# Altium footprint library WirelessModule.PcbLib: 7 footprints
Each footprint in its own frame and in the unit in brackets; x right, y up, seen from the top. Pads: shape width x height; smd on the part's side, far side on the other; paste and mask are expansions set on the pad; w line width, h text height; cw(c..) or ccw(c..) is an arc to the next point about the centre after c.
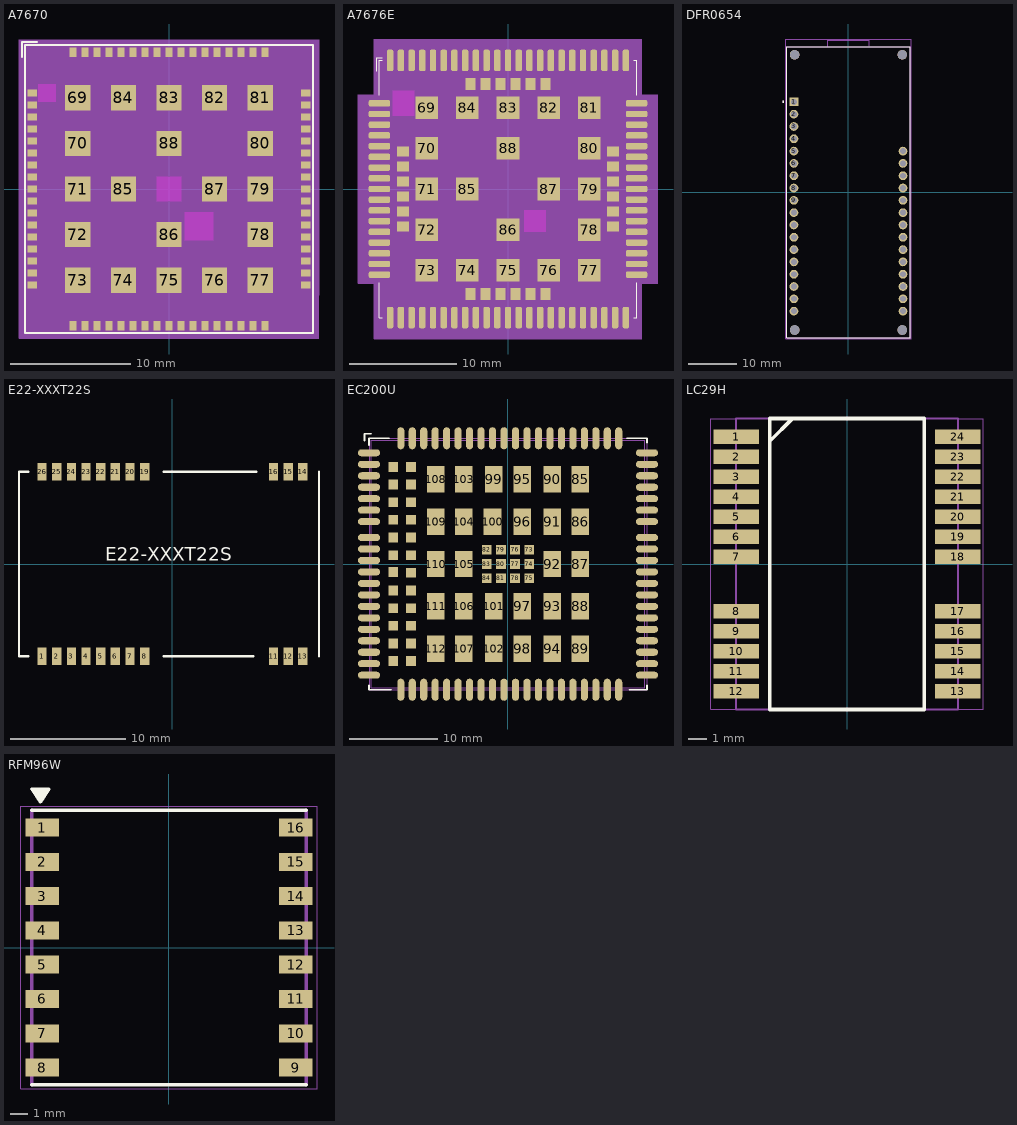
[diagram p0: the footprints below, top view; thin cyan lines are the x and y axes]

## A7670 [mm]
pads (88):
  rect 0.8x0.6 smd mask+0.05: 1(-11.4,8) 2(-11.4,7) 3(-11.4,6) 4(-11.4,5) 5(-11.4,4) 6(-11.4,3) 7(-11.4,2) 8(-11.4,1) 9(-11.4,0) 10(-11.4,-1) 11(-11.4,-2) 12(-11.4,-3) 13(-11.4,-4) 14(-11.4,-5) 15(-11.4,-6) 16(-11.4,-7) 17(-11.4,-8) 35(11.4,-8) 36(11.4,-7) 37(11.4,-6) 38(11.4,-5) 39(11.4,-4) 40(11.4,-3) 41(11.4,-2) 42(11.4,-1) 43(11.4,0) 44(11.4,1) 45(11.4,2) 46(11.4,3) 47(11.4,4) 48(11.4,5) 49(11.4,6) 50(11.4,7) 51(11.4,8)
  rect 0.6x0.8 smd mask+0.05: 18(-8,-11.4) 19(-7,-11.4) 20(-6,-11.4) 21(-5,-11.4) 22(-4,-11.4) 23(-3,-11.4) 24(-2,-11.4) 25(-1,-11.4) 26(0,-11.4) 27(1,-11.4) 28(2,-11.4) 29(3,-11.4) 30(4,-11.4) 31(5,-11.4) 32(6,-11.4) 33(7,-11.4) 34(8,-11.4) 52(8,11.4) 53(7,11.4) 54(6,11.4) 55(5,11.4) 56(4,11.4) 57(3,11.4) 58(2,11.4) 59(1,11.4) 60(0,11.4) 61(-1,11.4) 62(-2,11.4) 63(-3,11.4) 64(-4,11.4) 65(-5,11.4) 66(-6,11.4) 67(-7,11.4) 68(-8,11.4)
  rect 2.1x2.1 smd mask+0.05: 69(-7.6,7.6) 70(-7.6,3.8) 71(-7.6,0) 72(-7.6,-3.8) 73(-7.6,-7.6) 74(-3.8,-7.6) 75(0,-7.6) 76(3.8,-7.6) 77(7.6,-7.6) 78(7.6,-3.8) 79(7.6,0) 80(7.6,3.8) 81(7.6,7.6) 82(3.8,7.6) 83(0,7.6) 84(-3.8,7.6) 85(-3.8,0) 86(0,-3.8) 87(3.8,0) 88(0,3.8)
Top Overlay:
  lines w0.2: -12.25,11 -12.25,12.25 -11,12.25 ; -12,-12 -12,-8.75 -12,12 11.75,12 12,12 12,8.75 12,-8.75 12,-12 11.75,-12 -11.75,-12 -12,-12
Keep-Out Layer:
  rectangle: -1.05,-1.05 1.05,1.05
  rectangle: 1.3,-4.3 3.7,-1.9
  region: -9.4,7.25 -9.4,8.75 -10.9,8.75 -10.9,7.25
Assembly Notes:
  circle w0.1: c2.413,-3.048 r0.648
  lines w0.1: -12,-12 12,-12 12,12 -12,12 -12,-12 ; -10.668,8.001 -9.906,8.509 -9.906,7.493 -10.668,8.001
Mechanical 15:
  rectangle: -12.5,-12.446 12.5,12.446
  lines w0.1: 12.5,-8.8 12.5,-12.446 -12.5,-12.446 -12.5,-8.8 -12.5,8.8 -12.5,12.446 12.5,12.446 12.5,8.8 12.5,-8.8 ; 12.5,-8.8 12.5,-8.8
3D body "A7670E--3DModel-STEP-510211.STEP": height 2.7, standoff 0, extent -12,-12 12,12

## A7676E [mm]
pads (124):
  rrect50% 2x0.6 smd mask+0.05: 1(-12,8) 2(-12,7) 3(-12,6) 4(-12,5) 5(-12,4) 6(-12,3) 7(-12,2) 8(-12,1) 9(-12,0) 10(-12,-1) 11(-12,-2) 12(-12,-3) 13(-12,-4) 14(-12,-5) 15(-12,-6) 16(-12,-7) 17(-12,-8) 35(12,-8) 36(12,-7) 37(12,-6) 38(12,-5) 39(12,-4) 40(12,-3) 41(12,-2) 42(12,-1) 43(12,0) 44(12,1) 45(12,2) 46(12,3) 47(12,4) 48(12,5) 49(12,6) 50(12,7) 51(12,8)
  rrect50% 0.6x2 smd mask+0.05: 18(-8,-12) 19(-7,-12) 20(-6,-12) 21(-5,-12) 22(-4,-12) 23(-3,-12) 24(-2,-12) 25(-1,-12) 26(0,-12) 27(1,-12) 28(2,-12) 29(3,-12) 30(4,-12) 31(5,-12) 32(6,-12) 33(7,-12) 34(8,-12) 52(8,12) 53(7,12) 54(6,12) 55(5,12) 56(4,12) 57(3,12) 58(2,12) 59(1,12) 60(0,12) 61(-1,12) 62(-2,12) 63(-3,12) 64(-4,12) 65(-5,12) 66(-6,12) 67(-7,12) 68(-8,12) 89(-11,-12) 90(-10,-12) 91(-9,-12) 92(9,-12) 93(10,-12) 94(11,-12) 95(11,12) 96(10,12) 97(9,12) 98(-9,12) 99(-10,12) 100(-11,12)
  rect 2.1x2.1 smd mask+0.05: 69(-7.6,7.6) 70(-7.6,3.8) 71(-7.6,0) 72(-7.6,-3.8) 73(-7.6,-7.6) 74(-3.8,-7.6) 75(0,-7.6) 76(3.8,-7.6) 77(7.6,-7.6) 78(7.6,-3.8) 79(7.6,0) 80(7.6,3.8) 81(7.6,7.6) 82(3.8,7.6) 83(0,7.6) 84(-3.8,7.6) 85(-3.8,0) 86(0,-3.8) 87(3.8,0) 88(0,3.8)
  rect 1.1x0.9 smd mask+0.05: 101(-9.8,3.5) 102(-9.8,2.1) 103(-9.8,0.7) 104(-9.8,-0.7) 105(-9.8,-2.1) 106(-9.8,-3.5) 113(9.8,-3.5) 114(9.8,-2.1) 115(9.8,-0.7) 116(9.8,0.7) 117(9.8,2.1) 118(9.8,3.5)
  rect 0.9x1.1 smd mask+0.05: 107(-3.5,-9.8) 108(-2.1,-9.8) 109(-0.7,-9.8) 110(0.7,-9.8) 111(2.1,-9.8) 112(3.5,-9.8) 119(3.5,9.8) 120(2.1,9.8) 121(0.7,9.8) 122(-0.7,9.8) 123(-2.1,9.8) 124(-3.5,9.8)
Top Overlay:
  lines w0.1: -12.25,11 -12.25,12.25 -11.75,12.25 ; -12,-8.75 -12,-12 -11.75,-12 ; -12,8.75 -12,12 -11.75,12 ; 11.75,-12 12,-12 12,-8.75 ; 11.75,12 12,12 12,8.75
Keep-Out Layer:
  region: -8.725,6.8 -8.725,9.2 -10.775,9.2 -10.775,6.8
  rectangle: 1.475,-4.025 3.525,-1.975
Assembly Notes:
  circle w0.1: c2.5,-3 r0.5
  lines w0.1: -12,-12 -12,12 12,12 12,-12 -12,-12 ; -10.25,8 -9.25,7 -9.25,8.75 -10.25,8
Mechanical 15:
  rectangle: -14,-8.8 14,8.8
  rectangle: -12.5,-14 12.5,14
  lines w0.1: -14,-8.8 -12.5,-8.8 -12.5,-14 12.5,-14 12.5,-8.8 14,-8.8 14,8.8 12.5,8.8 12.5,14 -12.5,14 -12.5,8.8 -14,8.8 -14,-8.8
3D body "A7672S--3DModel-STEP-269445.STEP": height 2.6, standoff 0, extent -12,-12 12,12

## DFR0654 [mm] "FIREBEETLE ESP32-E IOT MICROCONT"
pads (36):
  rect 1.8x1.8 hole 1.2: 1(-11.25,18.68)
  round 1.8 hole 1.2: 2(-11.25,16.14) 3(-11.25,13.6) 4(-11.25,11.06) 5(-11.25,8.52) 6(-11.25,5.98) 7(-11.25,3.44) 8(-11.25,0.9) 9(-11.25,-1.64) 10(-11.25,-4.18) 11(-11.25,-6.72) 12(-11.25,-9.26) 13(-11.25,-11.8) 14(-11.25,-14.34) 15(-11.25,-16.88) 16(-11.25,-19.42) 17(-11.25,-21.96) 18(-11.25,-24.5) 19(11.25,-24.5) 20(11.25,-21.96) 21(11.25,-19.42) 22(11.25,-16.88) 23(11.25,-14.34) 24(11.25,-11.8) 25(11.25,-9.26) 26(11.25,-6.72) 27(11.25,-4.18) 28(11.25,-1.64) 29(11.25,0.9) 30(11.25,3.44) 31(11.25,5.98) 32(11.25,8.52)
  round 2 hole 2 unplated: ""(-11.1,-28.4) ""(-11.1,28.4) ""(11.1,-28.4) ""(11.1,28.4)
Top Overlay:
  circle w0.2: c-13.45,18.68 r0.1
  lines w0.127: -12.7,-30 12.7,-30 12.7,30 -12.7,30 -12.7,-30
Mechanical 13:
  circle w0.2: c-13.45,18.68 r0.1
  lines w0.127: -4.3,30 4.3,30 ; -4.3,30 -4.3,31.4 4.3,31.4 4.3,30 ; -4.3,30 -12.7,30 -12.7,-30 12.7,-30 12.7,30 4.3,30
Mechanical 15:
  lines w0.05: -12.95,-30.25 12.95,-30.25 12.95,31.65 -12.95,31.65 -12.95,-30.25
3D body "14-Pin Header - Female - 2.54mm.step": height 5, standoff -3, extent 10,-26.02 12.5,10.04
3D body "18-Pin Header - Female - 2.54mm.step": height 5, standoff -3, extent -12.5,-26.02 -10,20.2
3D body "step_temp.STEP": height 12.2, standoff 5.1, extent -12.7,-30.319 12.7,31.081

## E22-XXXT22S [mm]
pads (22):
  rect 0.8x1.5 smd: 1(-11.3,-8) 2(-10.03,-8) 3(-8.76,-8) 4(-7.49,-8) 5(-6.22,-8) 6(-4.95,-8) 7(-3.68,-8) 8(-2.41,-8) 11(8.76,-8) 12(10.03,-8) 13(11.3,-8) 14(11.3,8) 15(10.03,8) 16(8.76,8) 19(-2.41,8) 20(-3.68,8) 21(-4.95,8) 22(-6.22,8) 23(-7.49,8) 24(-8.76,8) 25(-10.03,8) 26(-11.3,8)
Top Overlay:
  lines w0.2: -12.5,-8 -13.3,-8 -13.3,8 -12.5,8 ; -0.75,-8 7,-8 ; -0.75,8 7.25,8 ; 12.7,-8 12.7,8
  text "E22-XXXT22S" at -5.807,-0.126 h2
3D body "E22-xxxT22S(3D).step": height 2.2, standoff -0.3, extent -13.25,-8 12.75,8

## EC200U [mm] "LTE CAT1 MODEM 144 SMD"
pads (144):
  rrect100% 2.5x0.8 smd: 1(-15.75,12.6) 2(-15.75,11.3) 3(-15.75,10) 4(-15.75,8.7) 5(-15.75,7.4) 6(-15.75,6.1) 7(-15.75,4.8) 8(-15.75,0.4) 9(-15.75,-0.9) 10(-15.75,-2.2) 11(-15.75,-3.5) 12(-15.75,-4.8) 13(-15.75,-6.1) 14(-15.75,-7.4) 15(-15.75,-8.7) 16(-15.75,-10) 17(-15.75,-11.3) 18(-15.75,-12.6) 37(15.75,-12.6) 38(15.75,-11.3) 39(15.75,-10) 40(15.75,-8.7) 41(15.75,-7.4) 42(15.75,-6.1) 43(15.75,-4.8) 44(15.75,-3.5) 45(15.75,-2.2) 46(15.75,-0.9) 47(15.75,0.4) 48(15.75,4.8) 49(15.75,6.1) 50(15.75,7.4) 51(15.75,8.7) 52(15.75,10) 53(15.75,11.3) 54(15.75,12.6) 141(-15.75,3) 142(-15.75,1.7) 143(15.75,1.7) 144(15.75,3)
  rrect100% 0.8x2.5 smd: 19(-9.55,-14.25) 20(-8.25,-14.25) 21(-6.95,-14.25) 22(-5.65,-14.25) 23(-4.35,-14.25) 24(-3.05,-14.25) 25(-1.75,-14.25) 26(-0.45,-14.25) 27(0.85,-14.25) 28(2.15,-14.25) 29(3.45,-14.25) 30(4.75,-14.25) 31(6.05,-14.25) 32(7.35,-14.25) 33(8.65,-14.25) 34(9.95,-14.25) 35(11.25,-14.25) 36(12.55,-14.25) 55(12.55,14.25) 56(11.25,14.25) 57(9.95,14.25) 58(8.65,14.25) 59(7.35,14.25) 60(6.05,14.25) 61(4.75,14.25) 62(3.45,14.25) 63(2.15,14.25) 64(0.85,14.25) 65(-0.45,14.25) 66(-1.75,14.25) 67(-3.05,14.25) 68(-4.35,14.25) 69(-5.65,14.25) 70(-6.95,14.25) 71(-8.25,14.25) 72(-9.55,14.25) 113(-10.85,14.25) 114(-12.15,14.25) 115(-10.85,-14.25) 116(-12.15,-14.25)
  rect 1.1x1.1 smd: 73(2.4,1.6) 74(2.4,0) 75(2.4,-1.6) 76(0.8,1.6) 77(0.8,0) 78(0.8,-1.6) 79(-0.8,1.6) 80(-0.8,0) 81(-0.8,-1.6) 82(-2.4,1.6) 83(-2.4,0) 84(-2.4,-1.6) 117(-11,11) 118(-11,9) 119(-11,7) 120(-11,5) 121(-11,3) 122(-11,1) 123(-11,-1) 124(-11,-3) 125(-11,-5) 126(-11,-7) 127(-11,-9) 128(-11,-11) 129(-13,11) 130(-13,9) 131(-13,7) 132(-13,5) 133(-13,3) 134(-13,1) 135(-13,-0.9) 136(-13,-3) 137(-13,-5) 138(-13,-7) 139(-13,-9) 140(-13,-11)
  rect 2x3 smd: 85(8.2,9.6) 86(8.2,4.8) 87(8.2,0) 88(8.2,-4.8) 89(8.2,-9.6) 90(5,9.6) 91(5,4.8) 92(5,0) 93(5,-4.8) 94(5,-9.6) 95(1.6,9.6) 96(1.6,4.8) 97(1.6,-4.8) 98(1.6,-9.6) 99(-1.6,9.6) 100(-1.75,4.8) 101(-1.6,-4.8) 102(-1.6,-9.6) 103(-5,9.6) 104(-5,4.8) 105(-5,0) 106(-5,-4.8) 107(-5,-9.6) 108(-8.2,9.6) 109(-8.2,4.8) 110(-8.2,0) 111(-8.2,-4.8) 112(-8.2,-9.6)
Top Overlay:
  lines w0.2: -16.25,14 -16.25,14.75 -15.5,14.75 ; -15.75,-13.75 -15.75,-14.25 -13.25,-14.25 ; -15.75,13.5 -15.75,14.25 -13.5,14.25 ; 13.5,14.25 15.75,14.25 15.75,13.75 ; 13.75,-14.25 15.75,-14.25 15.75,-13.75
Mechanical 13:
  lines w0.1: -15.5,-14 -15.5,14 15.5,14 15.5,-14 -15.5,-14
Mechanical 15:
  lines w0.1: -15.75,-14.25 -15.75,14.25 15.75,14.25 15.75,-14.25 -15.75,-14.25
3D body "EC200U.stp": height 2.4, standoff 0, extent -15.5,-14 15.5,14

## LC29H [mm] "LC29H is a dual-band, multi-constellation GNSS module with RTK"
pads (24):
  rect 2.5x0.8 smd mask+0.05: 1(-6.1,7) 2(-6.1,5.9) 3(-6.1,4.8) 4(-6.1,3.7) 5(-6.1,2.6) 6(-6.1,1.5) 7(-6.1,0.4) 8(-6.1,-2.6) 9(-6.1,-3.7) 10(-6.1,-4.8) 11(-6.1,-5.9) 12(-6.1,-7) 13(6.1,-7) 14(6.1,-5.9) 15(6.1,-4.8) 16(6.1,-3.7) 17(6.1,-2.6) 18(6.1,0.4) 19(6.1,1.5) 20(6.1,2.6) 21(6.1,3.7) 22(6.1,4.8) 23(6.1,5.9) 24(6.1,7)
Top Overlay:
  lines w0.2: -4.25,6.75 -3,8 ; -4.25,-8 -4.25,-3.5 -4.25,8 4.25,8 4.25,-0.5 4.25,-8 -4.25,-8
Mechanical 13:
  lines w0.127: -6.1,-8 -6.1,8 6.1,8 6.1,-8 -6.1,-8
Mechanical 15:
  lines w0.05: -7.5,-8 -7.5,8 7.5,8 7.5,-8 -7.5,-8
3D body "step_temp.STEP": height 2.5, standoff 0, extent -6.1,-8 6.1,8

## RFM96W [mm] "LoRa 868MHz SX1276 RF Transreceiver Module RFM96W"
pads (16):
  rect 1.95x1.05 smd: 1(-7.4,7) 2(-7.4,5) 3(-7.4,3) 4(-7.4,1) 5(-7.4,-1) 6(-7.4,-3) 7(-7.4,-5) 8(-7.4,-7) 9(7.4,-7) 10(7.4,-5) 11(7.4,-3) 12(7.4,-1) 13(7.4,1) 14(7.4,3) 15(7.4,5) 16(7.4,7)
Top Overlay:
  lines w0.2: -8,-8 8,-8 ; -8,8 8,8 ; -7.75,8.875 -7.775,9.213 -7.54,9.19 -7.649,8.986 -7.649,8.877 -7.469,9.002 -7.406,9.213 -7.281,9.198 -7.25,9.174 -7.422,9.057 -7.477,9.01 -7.618,8.892 -7.626,8.853 -7.594,8.767 -7.563,8.728 -7.54,8.697 -7.508,8.712 -7.469,8.806 -7.477,8.845 -7.391,8.9 -7.359,8.947 -7.32,8.994 -7.273,9.096 -7.234,9.12 ; -8,9.25 -7,9.25 -7.5,8.5 -8,9.25
Mechanical 13:
  lines w0.2: -8,-8 -8,8 ; 8,-8 8,8
Mechanical 15:
  lines w0.05: -8.65,-8.25 -8.65,8.25 8.65,8.25 8.65,-8.25 -8.65,-8.25
3D body "RFM95 LoRa v15.step": height 2.04, standoff 0, extent -8,-8 8,8